# Altium footprint library 5055670781.PcbLib: 1 footprints
Each footprint in its own frame and in the unit in brackets; x right, y up, seen from the top. Pads: shape width x height; smd on the part's side, far side on the other; paste and mask are expansions set on the pad; w line width, h text height; cw(c..) or ccw(c..) is an arc to the next point about the centre after c.
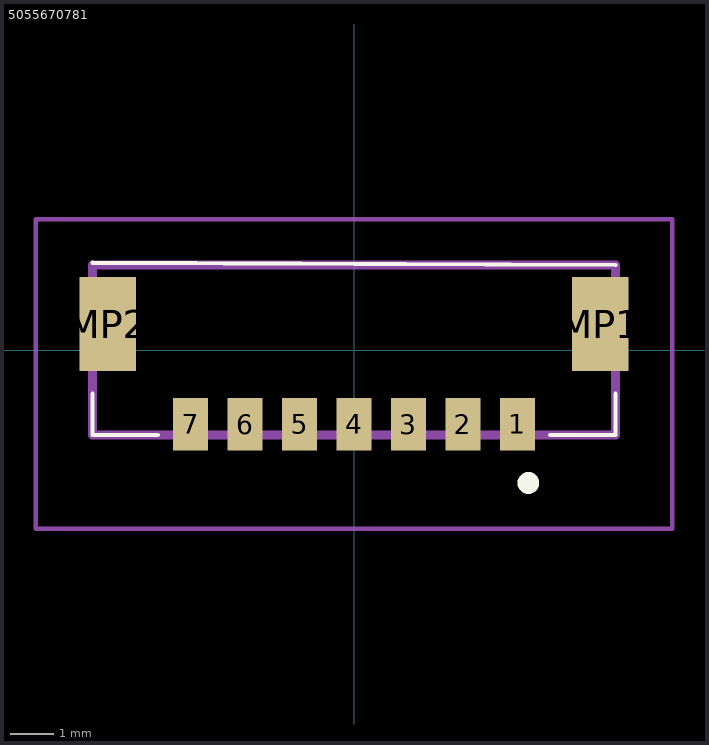
[diagram p0: the footprint, top view; thin cyan lines are the x and y axes]

## 5055670781 [mm]
pads (9):
  rect 0.8x1.2 smd: 1(3.75,-1.7) 2(2.5,-1.7) 3(1.25,-1.7) 4(0,-1.7) 5(-1.25,-1.7) 6(-2.5,-1.7) 7(-3.75,-1.7)
  rect 1.3x2.15 smd: MP1(5.65,0.595) MP2(-5.65,0.595)
Top Overlay:
  lines w0.1: -6,-1 -6,-1.95 -4.5,-1.95 ; -6,2 6,1.95 ; 4.5,-1.95 6,-1.95 6,-1
  lines w0.4: 4,-3.1 cw(c4,-3.05) 4,-3 ; 4,-3.1 4,-3.1 ; 4,-3.1 ccw(c4,-3.05) 4,-3 ; 4,-3 4,-3
Mechanical 15:
  lines w0.2: -6,-1.95 6,-1.95 6,1.95 -6,1.95 -6,-1.95
Mechanical 20:
  lines w0.1: -7.3,-4.1 7.3,-4.1 7.3,3 -7.3,3 -7.3,-4.1